# Altium footprint library Fuse_thermal.PcbLib: 1 footprints
Each footprint in its own frame and in the unit in brackets; x right, y up, seen from the top. Pads: shape width x height; smd on the part's side, far side on the other; paste and mask are expansions set on the pad; w line width, h text height; cw(c..) or ccw(c..) is an arc to the next point about the centre after c.
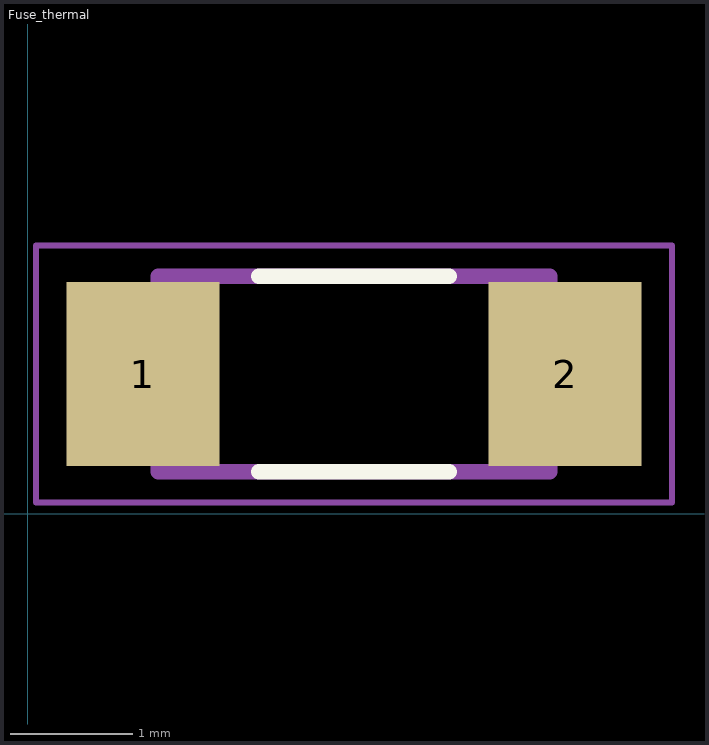
[diagram p0: the footprint, top view; thin cyan lines are the x and y axes]

## Fuse_thermal [mm]
pads (2):
  rect 1.25x1.5 smd: 1(0.942,1.143) 2(4.392,1.143)
Top Overlay:
  lines w0.127: 1.887,0.343 3.447,0.343 ; 1.887,1.943 3.447,1.943
Mechanical 13:
  lines w0.127: 1.067,0.343 4.267,0.343 4.267,1.943 1.067,1.943 1.067,0.343
Mechanical 15:
  lines w0.05: 0.067,0.093 5.267,0.093 5.267,2.193 0.067,2.193 0.067,0.093
3D body "ERJ-U08J474V.STEP": height 0.6, standoff 0, extent 0.94,0.343 4.14,1.943